# Altium schematic symbol library silabs.SCHLIB: 7 symbols
Pins are listed as number, name and electrical type; pins without a type are passive.

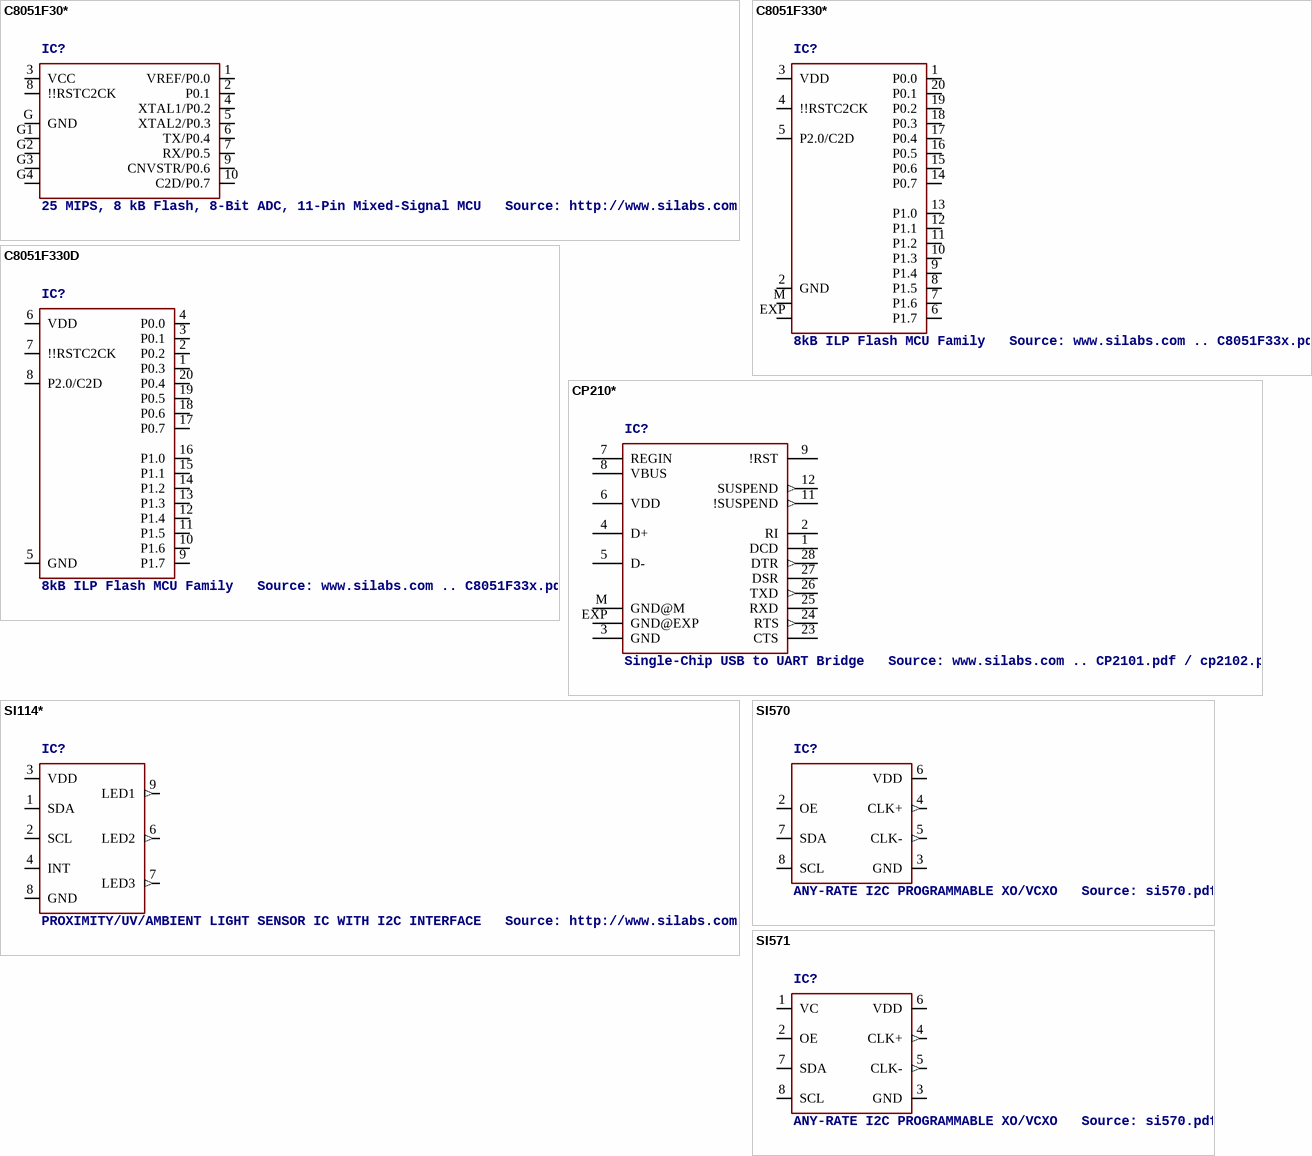
[diagram p0: symbols C8051F30* to SI571]

## C8051F30*
designator IC?, comment 25 MIPS, 8 kB Flash, 8-Bit ADC, 11-Pin Mixed-Signal MCU   Source: http://www.silabs.com/products/microcontroller .. C8051F30xrev2_3.pdf
MPN: C8051F300-GM; MPN: C8051F301-GM; MPN: C8051F304-GM; MPN: C8051F305-GM; OC_FARNELL: 4128310; OC_NEWARK: 96K8386; OC_FARNELL: 1291497; OC_NEWARK: 24M1228; OC_FARNELL: 9685812; OC_NEWARK: unknown; OC_FARNELL: unknown; OC_FARNELL: 1291498; OC_NEWARK: 24M1229; OC_FARNELL: 1291499; OC_NEWARK: 24M1230
footprint MLP11
pins: 1 VREF/P0.0, 2 P0.1, 3 VCC (power), 4 XTAL1/P0.2, 5 XTAL2/P0.3, 6 TX/P0.4, 7 RX/P0.5, 8 !!RSTC2CK, 9 CNVSTR/P0.6, 10 C2D/P0.7, G GND (power), G1 GND@1 (power), G2 GND@2 (power), G3 GND@3 (power), G4 GND@4 (power)

## C8051F330*
designator IC?, comment 8kB ILP Flash MCU Family   Source: www.silabs.com .. C8051F33x.pdf
MPN: C8051F330-GM; OC_FARNELL: 1291513; OC_NEWARK: 24M1242
footprint MLP20
pins: 1 P0.0, 2 GND (power), 3 VDD (power), 4 !!RSTC2CK, 5 P2.0/C2D, 6 P1.7, 7 P1.6, 8 P1.5, 9 P1.4, 10 P1.3, 11 P1.2, 12 P1.1, 13 P1.0, 14 P0.7, 15 P0.6, 16 P0.5, 17 P0.4, 18 P0.3, 19 P0.2, 20 P0.1, EXP GND@2 (power), M GND@1 (power)

## C8051F330D
designator IC?, comment 8kB ILP Flash MCU Family   Source: www.silabs.com .. C8051F33x.pdf
OC_FARNELL: unknown; OC_NEWARK: unknown
footprint DIL20
pins: 1 P0.3, 2 P0.2, 3 P0.1, 4 P0.0, 5 GND (power), 6 VDD (power), 7 !!RSTC2CK, 8 P2.0/C2D, 9 P1.7, 10 P1.6, 11 P1.5, 12 P1.4, 13 P1.3, 14 P1.2, 15 P1.1, 16 P1.0, 17 P0.7, 18 P0.6, 19 P0.5, 20 P0.4

## CP210*
designator IC?, comment Single-Chip USB to UART Bridge   Source: www.silabs.com .. CP2101.pdf / cp2102.pdf
MPN: CP2102-GM; MF: FARNELL; OC_FARNELL: 9282130; OC_NEWARK: 30K5635
footprint MLP28
pins: 1 DCD, 2 RI, 3 GND (power), 4 D+, 5 D-, 6 VDD (power), 7 REGIN, 8 VBUS, 9 !RST, 11 !SUSPEND (out), 12 SUSPEND (out), 23 CTS, 24 RTS (out), 25 RXD, 26 TXD (out), 27 DSR, 28 DTR (out), EXP GND@EXP (power), M GND@M (power)

## SI114*
designator IC?, comment PROXIMITY/UV/AMBIENT LIGHT SENSOR IC WITH I2C INTERFACE   Source: http://www.silabs.com/Support%20Documents/TechnicalDocs/Si1145-46-47.pdf
footprint QFN-10
pins: 1 SDA, 2 SCL, 3 VDD (power), 4 INT (oc), 6 LED2 (out), 7 LED3 (out), 8 GND (power), 9 LED1 (out)

## SI570
designator IC?, comment ANY-RATE I2C PROGRAMMABLE XO/VCXO   Source: si570.pdf
OC_FARNELL: unknown; OC_NEWARK: unknown
footprint 8-PIN
pins: 2 OE, 3 GND (power), 4 CLK+ (out), 5 CLK- (out), 6 VDD (power), 7 SDA, 8 SCL

## SI571
designator IC?, comment ANY-RATE I2C PROGRAMMABLE XO/VCXO   Source: si570.pdf
OC_FARNELL: unknown; OC_NEWARK: unknown
footprint 8-PIN
pins: 1 VC, 2 OE, 3 GND (power), 4 CLK+ (out), 5 CLK- (out), 6 VDD (power), 7 SDA, 8 SCL